# Altium footprint library InBoard.PcbLib: 21 footprints (part 2 of 2)
Each footprint in its own frame and in the unit in brackets; x right, y up, seen from the top. Pads: shape width x height; smd on the part's side, far side on the other; paste and mask are expansions set on the pad; w line width, h text height; cw(c..) or ccw(c..) is an arc to the next point about the centre after c.
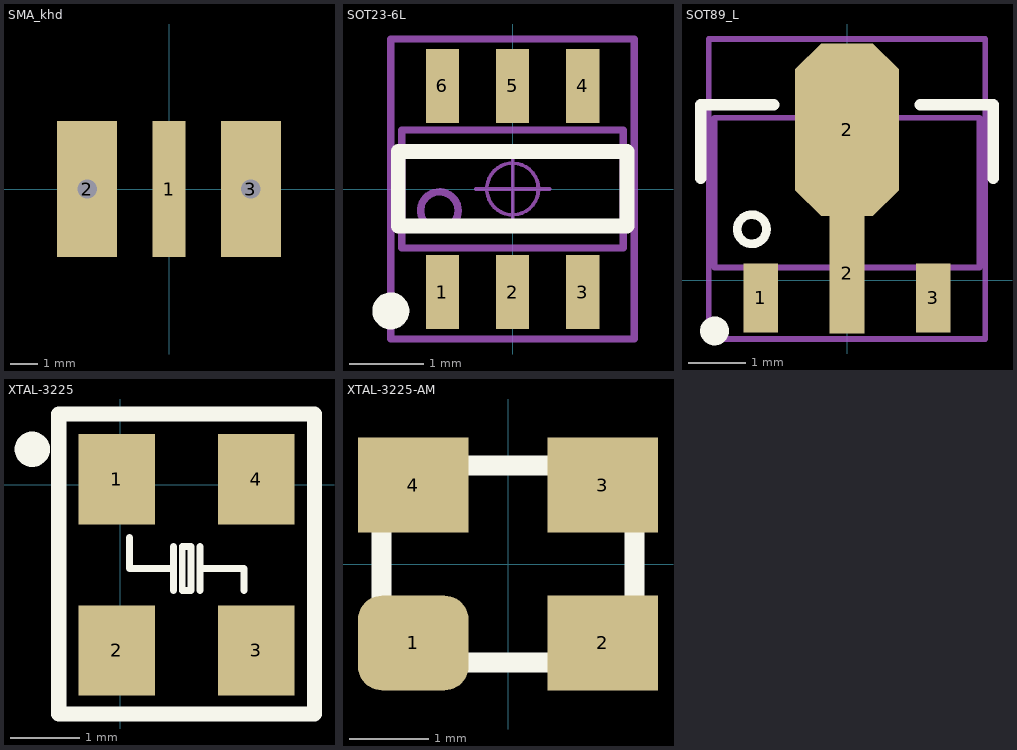
[diagram p1: the footprints below, top view; thin cyan lines are the x and y axes]

## SMA_khd [mm]
pads (3):
  rect 1.2x5 smd: 1(0,0)
  rect 2.2x5 all layers, no hole: 2(-3,0) 3(3,0)
via 3,0 diameter 1.27 hole 0.711
via -3,0 diameter 1.27 hole 0.711

## SOT23-6L [mm] "3x1.6x1.1mm(长宽高)"
height 1.45
pads (6):
  rect 0.45x1 smd: 1(-0.95,-1.397) 2(0,-1.397) 3(0.95,-1.397) 4(0.95,1.397) 5(0,1.397) 6(-0.95,1.397)
Top Overlay:
  circle w0.25: c-1.65,-1.651 r0.125
  lines w0.2: -1.55,-0.5 1.55,-0.5 1.55,0.508 -1.55,0.508 -1.55,-0.5
Mechanical 13:
  circle w0.1: c-0.992,-0.292 r0.254
  lines w0.1: -1.5,-0.8 -1.5,0.8 1.5,0.8 1.5,-0.8 -1.5,-0.8
Mechanical 15:
  circle w0.05: c0,0 r0.35
  lines w0.05: -0.5,0 0.5,0 ; 0,-0.5 0,0.5
  lines w0.1: -1.65,-2.032 -1.65,2.032 1.65,2.032 1.65,-2.032 -1.65,-2.032
3D body "SOT23-6.STEP": height 1.15, standoff -0.03, extent -1.5,-1.404 1.5,1.403

## SOT89_L [mm] "4.6x4.3x1.6mm(长宽高)"
height 1.6
pads (4):
  rect 0.6x1.2 smd: 1(-1.5,-0.303) 3(1.5,-0.303)
  rect 0.6x2.1 smd: 2(0,0.127)
  oct 1.8x3 smd: 2(0,2.616)
Top Overlay:
  circle w0.15: c-1.651,0.889 r0.254
  circle w0.25: c-2.3,-0.876 r0.125
  lines w0.2: -2.54,1.778 -2.54,3.048 -1.27,3.048 ; 1.27,3.048 2.54,3.048 2.54,1.778
Mechanical 13:
  circle w0.1: c-1.651,0.889 r0.25
  lines w0.1: -2.3,0.224 -2.3,2.824 2.3,2.824 2.3,0.224 -2.3,0.224
Mechanical 15:
  circle w0.05: c0,1.524 r0.35
  lines w0.05: -0.5,1.524 0.5,1.524 ; 0,1.024 0,2.024
  lines w0.1: -2.4,-1.016 -2.4,4.191 2.4,4.191 2.4,-1.016 -2.4,-1.016
3D body "SOT89.STEP": height 1.6, standoff 0.04, extent -2.3,-0.876 2.3,3.424

## XTAL-3225 [mm]
pads (4):
  rect 1.1x1.3 smd: 1(-0.051,0.076) 2(-0.051,-2.388) 3(1.956,-2.388) 4(1.956,0.076)
Top Overlay:
  circle w0.254: c-1.27,0.508 r0.127
  lines w0.1: 0.127,-0.762 0.127,-1.206 0.762,-1.206 ; 0.762,-1.524 0.762,-0.889 ; 1.143,-1.524 1.143,-0.889 ; 1.143,-1.206 1.778,-1.206 1.778,-1.524 ; 0.889,-1.524 1.016,-1.524 1.016,-0.889 0.889,-0.889 0.889,-1.524
  lines w0.22: -0.889,-3.302 -0.889,1.016 2.794,1.016 2.794,-3.302 -0.889,-3.302
3D body "XTAL-3225.STEP": height 0.8, standoff 0, extent -0.336,-2.743 2.164,0.457

## XTAL-3225-AM [mm]
pads (4):
  rrect50% 1.4x1.2 smd: 1(-1.2,-1)
  rect 1.4x1.2 smd: 2(1.2,-1) 3(1.2,1) 4(-1.2,1)
Top Overlay:
  lines w0.254: -1.6,-1.25 1.6,-1.25 1.6,1.25 -1.6,1.25 -1.6,-1.25
3D body "XTAL-3225.STEP": height 0.8, standoff 0, extent -1.583,-1.256 1.617,1.244